# EAGLE library part MAX1898 (library adafruit)
Maxim MAX1898 li-poly battery charger http://www.ladyada.net/library/eagle
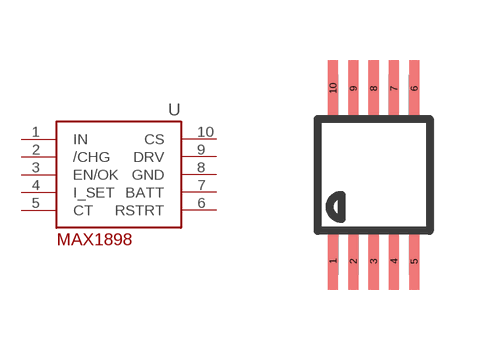
[diagram p11: symbol with the pads of UMAX10; footprint UMAX10]

Designator prefix -

## MAX1898U  [UMAX10]
1  IN  in
2  /CHG  out
3  EN/OK  in
4  I_SET  pas
5  CT  pas
6  RSTRT  pas
7  BATT  out
8  GND  pwr
9  DRV  out
10  CS  in

## Footprint UMAX10 (pad centres in mm)
smd 0.254 x 1.422: 1 -1.016,-2.159; 2 -0.508,-2.159; 3 0,-2.159; 4 0.508,-2.159; 5 1.016,-2.159; 6 1.016,2.159; 7 0.508,2.159; 8 0,2.159; 9 -0.508,2.159; 10 -1.016,2.159